# EAGLE library part TPS6101* (library 1V8)
1-CELL AND 2-CELL BOOST CONVERTERS
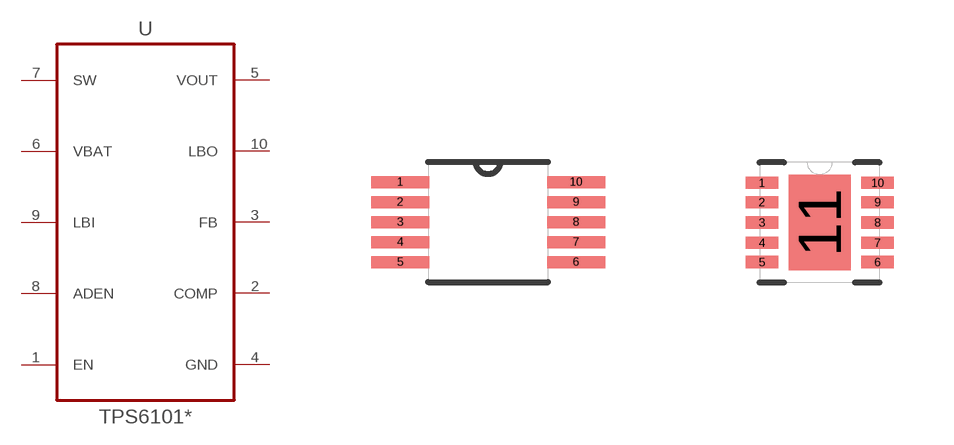
[diagram p3: symbol with the pads of SOP50P490X110-10N; footprints SOP50P490X110-10N, DFN300X300X80-11N]

Designator prefix U

## TPS61010DGS (PACKAGE: MSOP-10; SUPPLIER: Texas Instruments; VOLTAGE: 1.5-3.3), TPS61011DGS (PACKAGE: MSOP-10; SUPPLIER: Texas Instruments; VOLTAGE: 1.5), TPS61012DGS (PACKAGE: MSOP-10; SUPPLIER: Texas Instruments; VOLTAGE: 1.8), TPS61013DGS (PACKAGE: MSOP-10; SUPPLIER: Texas Instruments; VOLTAGE: 2.5), TPS61014DGS (PACKAGE: MSOP-10; SUPPLIER: Texas Instruments; VOLTAGE: 2.8), TPS61015DGS (PACKAGE: MSOP-10; SUPPLIER: Texas Instruments; VOLTAGE: 3.0), TPS61016DGS (MPN: TPS61016DGS; OC_FARNELL: 8457816; OC_NEWARK: 77C0668; PACKAGE: MSOP-10; SUPPLIER: Texas Instruments; VOLTAGE: 3.3)  [SOP50P490X110-10N]
1  EN  in
2  COMP  in
3  FB  in
4  GND  pas
5  VOUT  out
6  VBAT  pwr
7  SW  in
8  ADEN  in
9  LBI  in
10  LBO  out

## TPS61010DRC  [DFN300X300X80-11N]
1  EN  in
2  COMP  in
3  FB  in
4  GND  pas
5  VOUT  out
6  VBAT  pwr
7  SW  in
8  ADEN  in
9  LBI  in
10  LBO  out
11  GND  pas

## Footprint SOP50P490X110-10N (pad centres in mm)
smd 1.45 x 0.3: 1 -2.2,1; 2 -2.2,0.5; 3 -2.2,0; 4 -2.2,-0.5; 5 -2.2,-1; 6 2.2,-1; 7 2.2,-0.5; 8 2.2,0; 9 2.2,0.5; 10 2.2,1

## Footprint DFN300X300X80-11N (pad centres in mm)
smd 0.813 x 0.305: 1 -1.448,0.991; 2 -1.448,0.508; 3 -1.448,0; 4 -1.448,-0.508; 5 -1.448,-0.991; 6 1.448,-0.991; 7 1.448,-0.508; 8 1.448,0; 9 1.448,0.508; 10 1.448,0.991
smd 1.549 x 2.388: 11 0,0